# EAGLE library part 302-S101 (library connectors)
302-S101 10 pin connector 2.5 mm pitch
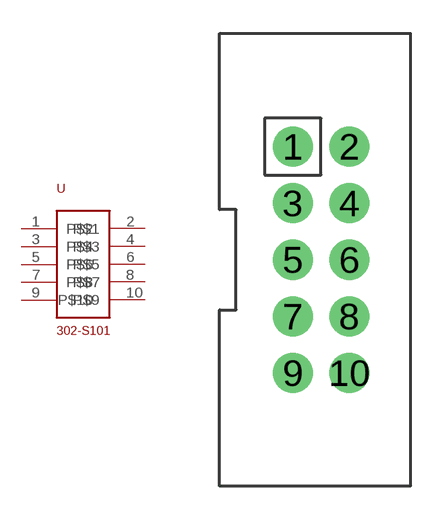
[diagram p2: symbol with the pads of 302-S101; footprint 302-S101]

Designator prefix -

## 302-S101  [302-S101]
1  P$1
2  P$2
3  P$3
4  P$4
5  P$5
6  P$6
7  P$7
8  P$8
9  P$9
10  P$10

## Footprint 302-S101 (pad centres in mm)
302-S101 OnShore Dual Row shrowded header 10 pin 2.5 mm pitch
drill 1.2: 1 0,0; 2 2.54,0; 3 0,-2.54; 4 2.54,-2.54; 5 0,-5.08; 6 2.54,-5.08; 7 0,-7.62; 8 2.54,-7.62; 9 0,-10.16; 10 2.54,-10.16